# Altium footprint library PCB - POTENTIOMETER - POT BOURNS TRIMPOT TC33.PCBLIB: 1 footprints
Each footprint in its own frame and in the unit in brackets; x right, y up, seen from the top. Pads: shape width x height; smd on the part's side, far side on the other; paste and mask are expansions set on the pad; w line width, h text height; cw(c..) or ccw(c..) is an arc to the next point about the centre after c.
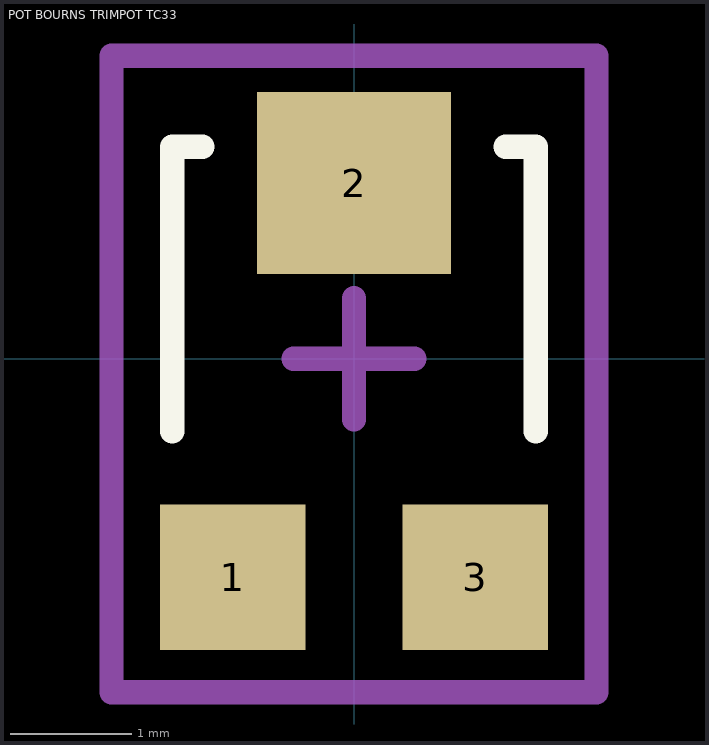
[diagram p0: the footprint, top view; thin cyan lines are the x and y axes]

## POT BOURNS TRIMPOT TC33 [mm] "Bourns Trimpot TC33X-1 - Open Frame 3mm x 3.8mm x 1.2mm"
height 1.05
pads (3):
  rect 1.2x1.2 smd: 1(-1,-1.8) 3(1,-1.8)
  rect 1.6x1.5 smd: 2(0,1.45)
Top Overlay:
  lines w0.2: -1.5,-0.6 -1.5,1.75 -1.25,1.75 ; 1.25,1.75 1.5,1.75 1.5,-0.6
Mechanical 15:
  lines w0.2: -0.5,0 0.5,0 ; 0,-0.5 0,0.5 ; -2,-2.75 2,-2.75 2,2.5 -2,2.5 -2,-2.75
3D body "BOURNS TC33.step": height 1.15, standoff -0.02, extent -1.8,-1.913 1.8,1.95